# Altium footprint library 691363310004.PcbLib: 1 footprints
Each footprint in its own frame and in the unit in brackets; x right, y up, seen from the top. Pads: shape width x height; smd on the part's side, far side on the other; paste and mask are expansions set on the pad; w line width, h text height; cw(c..) or ccw(c..) is an arc to the next point about the centre after c.
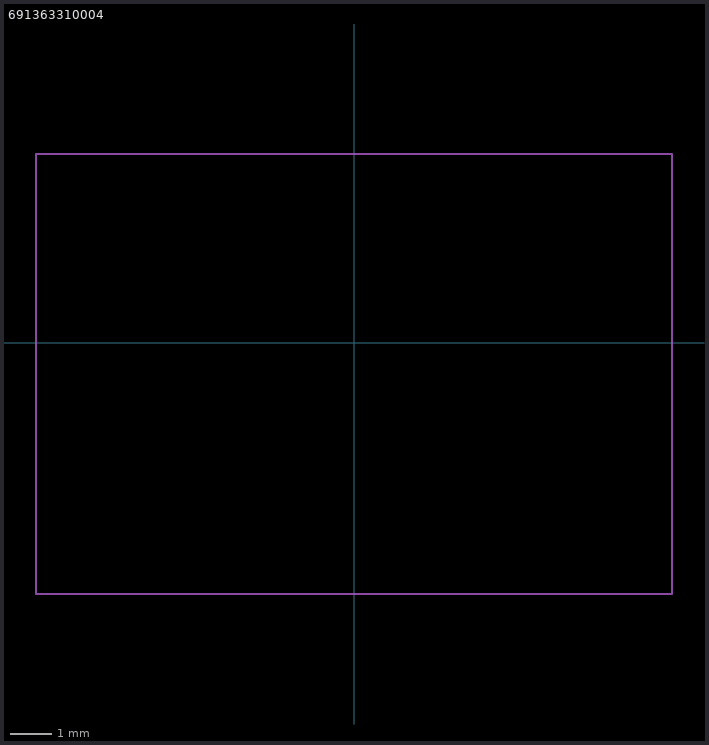
[diagram p0: the footprint, top view; thin cyan lines are the x and y axes]

## 691363310004 [mm]
Top Assembly:
  lines w0.05: -7.6,-6 -7.6,4.5 7.6,4.5 7.6,-6 -7.6,-6
3D body "691363310004 (rev1).stp": height 21.97, standoff 2.87, extent -7.62,-5.95 7.62,4.45